# Altium footprint library 智能饮水机.PcbLib: 20 footprints (part 1 of 2)
Each footprint in its own frame and in the unit in brackets; x right, y up, seen from the top. Pads: shape width x height; smd on the part's side, far side on the other; paste and mask are expansions set on the pad; w line width, h text height; cw(c..) or ccw(c..) is an arc to the next point about the centre after c.
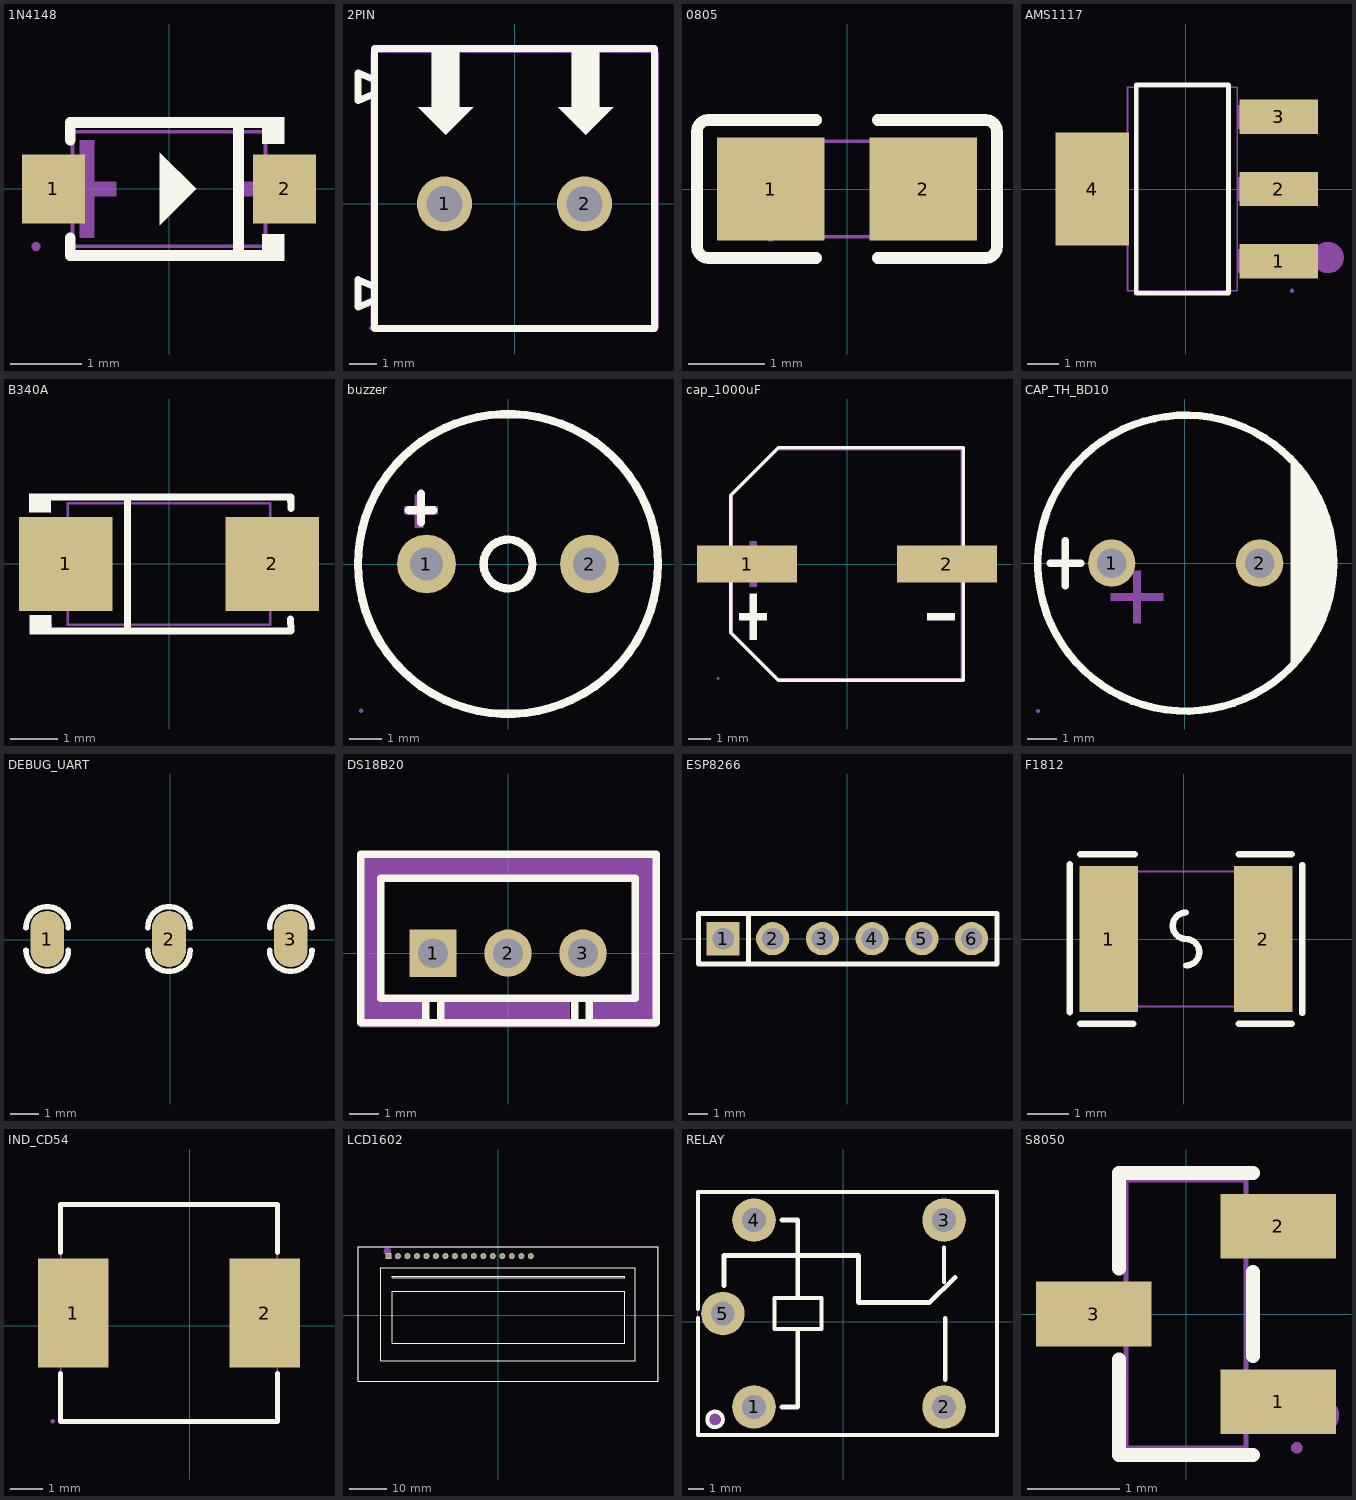
[diagram p0: the footprints below, top view; thin cyan lines are the x and y axes]

## 1N4148 [mm]
pads (2):
  rect 0.88x0.96 smd: 1(-1.61,0) 2(1.61,0)
Top Overlay:
  region: 1.3,-1.003 1.3,-0.632 1.605,-0.633 1.605,-1.003
  region: 1.3,1.002 1.3,0.632 1.605,0.632 1.605,1.002
  region: 0.381,0 -0.127,0.508 -0.127,-0.508
  lines w0.152: -1.376,-0.683 -1.376,-0.926 1.376,-0.926 ; -1.376,0.683 -1.376,0.926 1.376,0.926 ; 0.967,-0.926 0.967,0.926
Mechanical 6:
  region: 1.805,-0.102 1.805,0.102 0.989,0.102 0.989,-0.102
  region: -1.551,-0.102 -1.551,0.102 -0.735,0.102 -0.735,-0.102
  region: -1.245,-0.68 -1.245,0.68 -1.041,0.68 -1.041,-0.68
Mechanical 15:
  region: -1.791,-0.8 -1.791,-0.775 -1.826,-0.74 -1.876,-0.74 -1.911,-0.775 -1.911,-0.8 -1.911,-0.825 -1.876,-0.86 -1.826,-0.86 -1.791,-0.825
  region: 1.511,-0.3 1.511,0.3 1.34,0.3 1.34,-0.3
  region: 1.851,-0.3 1.501,-0.3 1.501,0.3 1.851,0.3
  region: -1.511,0.3 -1.511,-0.3 -1.34,-0.3 -1.34,0.3
  region: -1.851,0.3 -1.501,0.3 -1.501,-0.3 -1.851,-0.3
  lines w0.051: -1.345,-0.8 1.345,-0.8 1.345,0.8 -1.345,0.8 -1.345,-0.8

## 2PIN [mm]
pads (2):
  round 2 hole 1.3: 1(-2.54,0) 2(2.54,0)
Top Overlay:
  region: -3,5.5 -2,5.5 -2,3.5 -1.5,3.5 -2.5,2.5 -3.5,3.5 -3,3.5
  region: 2.08,5.5 3.08,5.5 3.08,3.5 3.58,3.5 2.58,2.5 1.58,3.5 2.08,3.5
  lines w0.254: -5.08,-4.52 -5.08,5.64 ; -5.08,-3.5 -5.68,-3.75 -5.68,-2.75 -5.08,-3 ; -5.08,4 -5.68,3.75 -5.68,4.75 -5.08,4.5 ; -5.054,-4.522 5.08,-4.522 5.08,5.638 -5.054,5.638
Mechanical 6:
  region: 2.08,5.5 3.08,5.5 3.08,3.5 3.58,3.5 2.58,2.5 1.58,3.5 2.08,3.5
  region: -3,5.5 -2,5.5 -2,3.5 -1.5,3.5 -2.5,2.5 -3.5,3.5 -3,3.5
Mechanical 15:
  region: -5.147,-4.5 -5.147,-4.475 -5.182,-4.44 -5.232,-4.44 -5.267,-4.475 -5.267,-4.5 -5.267,-4.525 -5.232,-4.56 -5.182,-4.56 -5.147,-4.525
  region: 3.09,0 3.088,0.108 3.003,0.308 2.849,0.46 2.648,0.542 2.432,0.542 2.231,0.46 2.077,0.308 1.992,0.108 1.99,0 1.992,-0.108 2.077,-0.307 2.231,-0.46 2.432,-0.542 2.648,-0.542 2.849,-0.46 3.003,-0.308 3.088,-0.108
  region: -1.99,0 -1.992,0.108 -2.077,0.308 -2.231,0.46 -2.432,0.542 -2.648,0.542 -2.849,0.46 -3.003,0.308 -3.088,0.108 -3.09,0 -3.088,-0.108 -3.003,-0.307 -2.849,-0.46 -2.648,-0.542 -2.432,-0.542 -2.231,-0.46 -2.077,-0.308 -1.992,-0.108
  lines w0.051: -5.207,-4.5 5.207,-4.5 5.207,5.5 -5.207,5.5 -5.207,-4.5

## 0805 [mm]
pads (2):
  rect 1.41x1.35 smd paste-100 mask+0.051: 1(-1,0) 2(1,0)
Top Overlay:
  lines w0.152: -0.401,-0.904 -1.811,-0.904 cw(c-1.811,-0.751) -1.964,-0.751 -1.964,0.751 cw(c-1.811,0.751) -1.811,0.904 -0.401,0.904 ; 0.401,-0.904 1.811,-0.904 ccw(c1.811,-0.751) 1.964,-0.751 1.964,0.751 ccw(c1.811,0.751) 1.811,0.904 0.401,0.904
Top Paste:
  region: 1.705,0.64 1.705,-0.64 1.655,-0.69 0.505,-0.69 0.455,-0.64 0.45,-0.23 0.9,-0.23 0.9,0.22 0.46,0.22 0.455,0.64 0.505,0.69 1.655,0.69
  region: -1.705,-0.64 -1.705,0.64 -1.655,0.69 -0.505,0.69 -0.455,0.64 -0.45,0.23 -0.9,0.23 -0.9,-0.22 -0.46,-0.22 -0.455,-0.64 -0.505,-0.69 -1.655,-0.69
Mechanical 15:
  region: 1,0.625 1,-0.625 0.5,-0.625 0.5,0.625
  region: -1,-0.625 -1,0.625 -0.5,0.625 -0.5,-0.625
  region: -0.94,-0.625 -0.941,-0.601 -0.976,-0.568 -1.024,-0.568 -1.059,-0.601 -1.06,-0.625 -1.059,-0.649 -1.024,-0.683 -0.976,-0.683 -0.941,-0.649
  lines w0.051: -1,-0.625 1,-0.625 1,0.625 -1,0.625 -1,-0.625

## AMS1117 [mm]
pads (4):
  rect 2.5x1.1 smd: 1(2.97,-2.3) 2(2.97,0) 3(2.97,2.3)
  rect 2.34x3.6 smd: 4(-2.97,0)
Top Overlay:
  lines w0.152: -1.571,-3.326 -1.571,3.326 1.371,3.326 1.371,-3.326 -1.571,-3.326
Mechanical 6:
  circle w0.5: c4.552,-2.188 r0.25
Mechanical 15:
  region: 3.46,-3.25 3.46,-3.225 3.425,-3.19 3.375,-3.19 3.34,-3.225 3.34,-3.25 3.34,-3.275 3.375,-3.31 3.425,-3.31 3.46,-3.275
  region: 1.64,1.925 1.64,2.675 2.66,2.675 2.66,1.925
  region: 2.65,1.925 2.65,2.675 3.4,2.675 3.4,1.925
  region: 1.64,-0.375 1.64,0.375 2.66,0.375 2.66,-0.375
  region: 2.65,-0.375 2.65,0.375 3.4,0.375 3.4,-0.375
  region: 1.64,-2.675 1.64,-1.925 2.66,-1.925 2.66,-2.675
  region: 2.65,-2.675 2.65,-1.925 3.4,-1.925 3.4,-2.675
  region: -2.86,-1.5 -2.86,1.5 -1.84,1.5 -1.84,-1.5
  region: -3.6,-1.5 -3.6,1.5 -2.85,1.5 -2.85,-1.5
  lines w0.051: -1.85,-3.25 -1.85,3.25 1.65,3.25 1.65,-3.25 -1.85,-3.25

## B340A [mm]
pads (2):
  rect 2x2 smd: 1(-2.2,0) 2(2.2,0)
Top Overlay:
  region: -2.52,1.502 -2.521,1.096 -2.981,1.1 -2.977,1.502
  region: -2.512,-1.096 -2.513,-1.503 -2.973,-1.498 -2.969,-1.096
  lines w0.152: -2.596,-1.426 2.596,-1.426 ; -2.596,1.426 2.596,1.426 2.603,1.187 ; -0.884,-1.426 -0.884,1.426 ; 2.593,-1.176 2.6,-1.415
Mechanical 6:
  region: -2.317,-0.101 -2.317,0.101 -1.507,0.101 -1.507,-0.101
  region: 2.317,-0.101 2.317,0.101 1.507,0.101 1.507,-0.101
  region: 2.014,-0.675 2.014,0.675 1.811,0.675 1.811,-0.675
Mechanical 15:
  region: 2.56,0.725 2.56,-0.725 1.435,-0.725 1.435,0.725
  region: -1.435,0.725 -1.435,-0.725 -2.56,-0.725 -2.56,0.725
  region: -2.5,-1.3 -2.5,-1.275 -2.535,-1.241 -2.584,-1.241 -2.619,-1.275 -2.62,-1.3 -2.619,-1.324 -2.584,-1.359 -2.536,-1.359 -2.501,-1.324
  lines w0.051: -2.16,-1.3 2.16,-1.3 2.16,1.3 -2.16,1.3 -2.16,-1.3

## buzzer [mm]
pads (2):
  round 1.8 hole 1 copper offset 0,0: 1(-2.5,0)
  round 1.8 hole 1: 2(2.5,0)
Top Overlay:
  circle w0.254: c0,0 r4.6
  circle w0.254: c0,0 r0.75
  lines w0.254: -3.048,1.651 -2.286,1.651 ; -2.667,1.27 -2.667,2.159
Mechanical 6:
  region: -3.048,1.524 -2.159,1.524 -2.159,1.778 -3.175,1.778 -3.175,1.524
  region: -2.599,1.235 -2.599,2.124 -2.853,2.124 -2.853,1.108 -2.599,1.108
Mechanical 15:
  region: -4.445,-4.505 -4.445,-4.48 -4.48,-4.445 -4.53,-4.445 -4.565,-4.48 -4.565,-4.505 -4.565,-4.53 -4.53,-4.565 -4.48,-4.565 -4.445,-4.53
  region: 2.8,0 2.799,0.059 2.753,0.168 2.669,0.252 2.559,0.297 2.441,0.297 2.331,0.252 2.247,0.168 2.201,0.059 2.2,0 2.201,-0.059 2.247,-0.168 2.331,-0.252 2.441,-0.297 2.559,-0.297 2.669,-0.252 2.753,-0.168 2.799,-0.059
  region: -2.2,0 -2.201,0.059 -2.247,0.168 -2.331,0.252 -2.441,0.297 -2.559,0.297 -2.669,0.252 -2.753,0.168 -2.799,0.059 -2.8,0 -2.799,-0.059 -2.753,-0.168 -2.669,-0.252 -2.559,-0.297 -2.441,-0.297 -2.331,-0.252 -2.247,-0.168 -2.201,-0.059
  lines w0.051: -4.505,0 cw(c0,0) 4.505,0 cw(c0,0) -4.505,0

## cap_1000uF [mm]
pads (2):
  rect 4.5x1.65 smd: 1(-4.5,0) 2(4.5,0)
Top Overlay:
  region: -4.378,-1.339 -4.378,-3.399 -4.068,-3.399 -4.068,-1.339
  region: -4.841,-2.214 -4.841,-2.523 -3.605,-2.523 -3.605,-2.214
  region: 4.841,-2.214 4.841,-2.523 3.605,-2.523 3.605,-2.214
  lines w0.152: -5.226,-0.852 -5.226,-3.09 -3.09,-5.226 5.226,-5.226 5.226,-0.852 ; -5.226,0.852 -5.226,3.09 -3.09,5.226 5.226,5.226 5.226,0.852
Mechanical 6:
  region: -4.378,1.03 -4.378,-1.03 -4.068,-1.03 -4.068,1.03
  region: -4.841,0.155 -4.841,-0.155 -3.605,-0.155 -3.605,0.155
  region: 4.841,0.155 4.841,-0.155 3.605,-0.155 3.605,0.155
Mechanical 15:
  region: 2.3,0.45 5.8,0.45 5.8,-0.45 2.3,-0.45
  region: -5.8,0.45 -2.3,0.45 -2.3,-0.45 -5.8,-0.45
  region: -5.74,-5.15 -5.74,-5.125 -5.775,-5.09 -5.825,-5.09 -5.86,-5.125 -5.86,-5.15 -5.86,-5.175 -5.825,-5.21 -5.775,-5.21 -5.74,-5.175
  lines w0.051: -5.15,-3.09 -5.15,3.09 -3.09,5.15 5.15,5.15 5.15,-5.15 -3.09,-5.15 -5.15,-3.09

## CAP_TH_BD10 [mm]
pads (2):
  round 1.6 hole 1: 1(-2.46,0) 2(2.54,0)
Top Overlay:
  circle w0.254: c0.04,0 r5
  region: 3.596,3.556 3.596,-3.556 4.358,-2.54 4.866,-1.016 5.12,0.508 4.866,1.524
  lines w0.254: -4.532,0 -3.516,0 ; -4.024,-0.762 -4.024,0.762
Mechanical 6:
  region: -1.738,-0.762 -1.738,-2.032 -1.484,-2.032 -1.484,-0.254 -1.738,-0.254
  region: -2.5,-1.016 -0.722,-1.016 -0.722,-1.27 -2.5,-1.27
Mechanical 15:
  region: 2.84,0 2.839,0.059 2.792,0.167 2.708,0.25 2.599,0.294 2.481,0.294 2.372,0.25 2.288,0.167 2.241,0.059 2.24,0 2.241,-0.059 2.288,-0.167 2.372,-0.25 2.481,-0.294 2.599,-0.294 2.708,-0.25 2.792,-0.167 2.839,-0.059
  region: -2.16,0 -2.161,0.059 -2.208,0.167 -2.292,0.25 -2.401,0.294 -2.519,0.294 -2.628,0.25 -2.712,0.167 -2.759,0.059 -2.76,0 -2.759,-0.059 -2.712,-0.167 -2.628,-0.25 -2.519,-0.294 -2.401,-0.294 -2.292,-0.25 -2.208,-0.167 -2.161,-0.059
  region: -4.9,-5 -4.9,-4.975 -4.935,-4.94 -4.985,-4.94 -5.02,-4.975 -5.02,-5 -5.02,-5.025 -4.985,-5.06 -4.935,-5.06 -4.9,-5.025
  lines w0.051: -4.96,0 ccw(c0.04,0) 5.04,0 ccw(c0.04,0) -4.96,0

## DEBUG_UART [mm]
pads (3):
  oval 1.2x2 smd: 1(-4.364,0.035) 2(-0.046,0.035) 3(4.272,0.035)
Top Overlay:
  lines w0.2: -5.114,-0.365 ccw(c-4.364,-0.365) -3.614,-0.365 ; -5.114,0.435 cw(c-4.364,0.435) -3.614,0.435 ; -0.796,-0.365 ccw(c-0.046,-0.365) 0.704,-0.365 ; -0.796,0.435 cw(c-0.046,0.435) 0.704,0.435 ; 3.522,-0.365 ccw(c4.272,-0.365) 5.022,-0.365 ; 3.522,0.435 cw(c4.272,0.435) 5.022,0.435

## DS18B20 [mm]
pads (3):
  rect 1.6x1.6 hole 1: 1(-2.54,0)
  round 1.6 hole 1: 2(0,0) 3(2.54,0)
Top Overlay:
  lines w0.254: -2.794,-2.35 -2.794,-1.524 ; -2.279,-2.35 -2.279,-1.524 ; 2.268,-2.35 2.268,-1.524 ; 2.751,-2.35 2.751,-1.524 ; -4.98,-2.35 -4.98,3.35 5.02,3.35 5.02,-2.35 -4.98,-2.35 ; -4.318,-1.524 4.318,-1.524 4.318,2.54 -4.318,2.54 -4.318,-1.524
Mechanical 6:
  region: -2.22,-2.3 2.098,-2.3 2.098,-1.538 -2.22,-1.538
  region: 2.794,-2.286 2.794,-1.524 4.318,-1.524 4.318,2.54 -4.318,2.54 -4.318,-1.524 -2.794,-1.524 -2.794,-2.286 -5.08,-2.286 -5.08,3.302 5.08,3.302 5.08,-2.286
Mechanical 15:
  region: 2.215,0.325 2.865,0.325 2.865,-0.325 2.215,-0.325
  region: -0.325,0.325 0.325,0.325 0.325,-0.325 -0.325,-0.325
  region: -2.865,0.325 -2.215,0.325 -2.215,-0.325 -2.865,-0.325
  region: -4.94,3.4 -4.941,3.424 -4.975,3.459 -5.024,3.459 -5.059,3.424 -5.06,3.4 -5.059,3.375 -5.024,3.341 -4.975,3.341 -4.941,3.375
  lines w0.051: -5,-2.5 -5,3.4 5,3.4 5,-2.5 -5,-2.5

## ESP8266 [mm]
pads (6):
  rect 1.7x1.7 hole 1.1: 1(-6.35,0)
  round 1.7 hole 1.1: 2(-3.81,0) 3(-1.27,0) 4(1.27,0) 5(3.81,0) 6(6.35,0)
Top Overlay:
  lines w0.254: -5.056,-1.27 -5.056,1.27 ; -7.6,-1.3 7.65,-1.3 7.65,1.3 -7.6,1.3 -7.6,-1.3
Mechanical 15:
  region: -7.56,-1.27 -7.56,-1.245 -7.595,-1.21 -7.645,-1.21 -7.68,-1.245 -7.68,-1.27 -7.68,-1.295 -7.645,-1.33 -7.595,-1.33 -7.56,-1.295
  region: 6.03,0.32 6.67,0.32 6.67,-0.32 6.03,-0.32
  region: 3.49,0.32 4.13,0.32 4.13,-0.32 3.49,-0.32
  region: 0.95,0.32 1.59,0.32 1.59,-0.32 0.95,-0.32
  region: -1.59,0.32 -0.95,0.32 -0.95,-0.32 -1.59,-0.32
  region: -4.13,0.32 -3.49,0.32 -3.49,-0.32 -4.13,-0.32
  region: -6.67,0.32 -6.03,0.32 -6.03,-0.32 -6.67,-0.32
  lines w0.051: -7.62,-1.27 -7.62,1.27 7.62,1.27 7.62,-1.27 -7.62,-1.27

## F1812 [mm]
pads (2):
  rect 1.407x3.499 smd paste-100 mask+0.051: 1(-1.802,0) 2(1.905,0)
Top Overlay:
  lines w0.152: -2.742,-1.758 -2.742,1.798 ; -2.488,-2.032 -1.218,-2.032 ; -2.488,2.032 -1.183,2.032 ; 0.052,-0.635 ccw(c0.052,-0.318) 0.052,0 cw(c0.052,0.318) 0.052,0.635 ; 1.322,-2.032 2.592,-2.032 ; 1.322,2.032 2.592,2.032 ; 2.846,-1.778 2.846,1.778
Top Paste:
  region: 1.202,-1.65 1.202,-0.695 1.302,-0.595 1.58,-0.595 1.68,-0.495 1.68,0.495 1.58,0.595 1.302,0.595 1.202,0.695 1.202,1.65 1.302,1.75 2.508,1.75 2.608,1.65 2.608,-1.65 2.508,-1.75 1.302,-1.75
  region: -1.098,-1.65 -1.098,-0.695 -1.198,-0.595 -1.477,-0.595 -1.577,-0.495 -1.577,0.495 -1.477,0.595 -1.198,0.595 -1.098,0.695 -1.098,1.65 -1.198,1.75 -2.405,1.75 -2.505,1.65 -2.505,-1.65 -2.405,-1.75 -1.198,-1.75
Mechanical 15:
  region: -2.164,-1.62 -2.164,-1.596 -2.199,-1.561 -2.248,-1.561 -2.283,-1.596 -2.283,-1.62 -2.283,-1.644 -2.248,-1.679 -2.199,-1.679 -2.164,-1.644
  region: -2.223,-1.62 -2.223,1.62 -1.473,1.62 -1.473,-1.62
  region: 2.327,-1.62 2.327,1.62 1.577,1.62 1.577,-1.62
  lines w0.051: -2.223,-1.62 -2.223,1.62 2.327,1.62 2.327,-1.62 -2.223,-1.62

## IND_CD54 [mm]
pads (2):
  rect 2.15x3.32 smd: 1(-3.548,0.381) 2(2.278,0.381)
Top Overlay:
  lines w0.152: -3.937,-1.459 -3.937,-2.921 2.667,-2.921 2.667,-1.459 ; -3.937,2.221 -3.937,3.683 2.667,3.683 2.667,2.221
Mechanical 15:
  region: 1.315,1.881 2.915,1.881 2.915,-1.119 1.315,-1.119
  region: -4.185,1.881 -2.585,1.881 -2.585,-1.119 -4.185,-1.119
  region: -4.125,-2.919 -4.125,-2.894 -4.16,-2.859 -4.21,-2.859 -4.245,-2.894 -4.245,-2.919 -4.245,-2.944 -4.21,-2.979 -4.16,-2.979 -4.125,-2.944 -4.125,-2.919
  lines w0.051: -3.935,-2.919 -3.935,3.681 2.665,3.681 2.665,-2.919 -3.935,-2.919

## LCD1602 [mm]
pads (16):
  rect 1.6x1.6 hole 1: 1(-29.368,15.887)
  round 1.6 hole 1: 2(-26.828,15.887) 3(-24.288,15.887) 4(-21.748,15.887) 5(-19.208,15.887) 6(-16.668,15.887) 7(-14.128,15.887) 8(-11.588,15.887) 9(-9.048,15.887) 10(-6.508,15.887) 11(-3.968,15.887) 12(-1.428,15.887) 13(1.112,15.887) 14(3.652,15.887) 15(6.192,15.887) 16(8.732,15.887)
Top Overlay:
  lines w0.2: -37.5,-17.647 42.764,-17.647 42.764,18.421 -37.5,18.421 -37.5,-17.647 ; -31.404,-12.059 36.668,-12.059 36.668,12.833 -31.404,12.833 -31.404,-12.059 ; -28.356,-7.487 33.874,-7.487 33.874,6.483 -28.356,6.483 -28.356,-7.487 ; -28.356,10.039 33.874,10.039 33.874,10.547 -28.356,10.547 -28.356,10.039
Mechanical 6:
  circle w1: c-29.626,17.151 r0.5
Mechanical 15:
  region: -37.308,18.387 -37.309,18.411 -37.344,18.444 -37.392,18.444 -37.427,18.411 -37.428,18.387 -37.427,18.363 -37.392,18.33 -37.344,18.33 -37.309,18.363
  region: -29.688,16.207 -29.048,16.207 -29.048,15.567 -29.688,15.567
  region: -27.148,16.207 -26.508,16.207 -26.508,15.567 -27.148,15.567
  region: -24.608,16.207 -23.968,16.207 -23.968,15.567 -24.608,15.567
  region: -22.068,16.207 -21.428,16.207 -21.428,15.567 -22.068,15.567
  region: -19.528,16.207 -18.888,16.207 -18.888,15.567 -19.528,15.567
  region: -16.988,16.207 -16.348,16.207 -16.348,15.567 -16.988,15.567
  region: -14.448,16.207 -13.808,16.207 -13.808,15.567 -14.448,15.567
  region: -11.908,16.207 -11.268,16.207 -11.268,15.567 -11.908,15.567
  region: -9.368,16.207 -8.728,16.207 -8.728,15.567 -9.368,15.567
  region: -6.828,16.207 -6.188,16.207 -6.188,15.567 -6.828,15.567
  region: -4.288,16.207 -3.648,16.207 -3.648,15.567 -4.288,15.567
  region: -1.748,16.207 -1.108,16.207 -1.108,15.567 -1.748,15.567
  region: 0.792,16.207 1.432,16.207 1.432,15.567 0.792,15.567
  region: 3.332,16.207 3.972,16.207 3.972,15.567 3.332,15.567
  region: 5.872,16.207 6.512,16.207 6.512,15.567 5.872,15.567
  region: 8.412,16.207 9.052,16.207 9.052,15.567 8.412,15.567
  lines w0.051: -37.368,-17.613 42.632,-17.613 42.632,18.387 -37.368,18.387 -37.368,-17.613

## RELAY [mil]
pads (5):
  round 110 hole 60: 1(-225.33,-215.02) 2(255,-215) 3(255,257.4) 4(-225.33,257.42) 5(-304.07,21.2)
Top Overlay:
  circle w10: c-323.75,-246.52 r19.69
  lines w10: -367.02,9.6 -367.02,-285.89 388.89,-285.89 388.89,328.29 -367.02,328.29 -367.02,32.8 ; 254.97,100.7 254.97,188.4 ; -173.16,-18.17 -173.16,60.57 -55.05,60.57 -55.05,-18.17 -173.16,-18.17
  lines w11.81: -301.38,92.07 -301.38,167.94 38.62,167.94 38.62,49.83 39.58,48.88 197.69,48.88 217.69,48.88 ; -154.84,-215.02 -114.77,-215.02 -114.77,-20.19 ; -154.84,257.42 -114.77,257.42 -114.77,62.57 ; 217.59,48.8 282.57,112.1 ; 257.69,-146.4 257.69,8.9
Mechanical 6:
  circle w19.68: c-323.75,-246.52 r9.84
Mechanical 15:
  region: 274.68,-224.84 235.31,-224.84 235.31,-205.16 274.68,-205.16
  region: 274.68,247.56 235.31,247.56 235.31,267.24 274.68,267.24
  region: -296.19,42.85 -296.19,-0.45 -311.94,-0.45 -311.94,42.85
  region: -213.51,-215.02 -213.55,-212.7 -215.39,-208.44 -218.71,-205.19 -223,-203.44 -227.64,-203.44 -231.94,-205.19 -235.25,-208.44 -237.09,-212.7 -237.14,-215.02 -237.09,-217.34 -235.25,-221.6 -231.94,-224.85 -227.64,-226.61 -223,-226.61 -218.71,-224.85 -215.39,-221.6 -213.55,-217.34
  region: -213.51,257.42 -213.55,259.74 -215.39,264 -218.71,267.25 -223,269 -227.64,269 -231.94,267.25 -235.25,264 -237.09,259.74 -237.14,257.42 -237.09,255.1 -235.25,250.84 -231.94,247.59 -227.64,245.83 -223,245.83 -218.71,247.59 -215.39,250.84 -213.55,255.1
  region: -364.69,-285.87 -364.69,-284.89 -366.08,-283.51 -368.03,-283.51 -369.42,-284.89 -369.42,-285.87 -369.42,-286.85 -368.03,-288.23 -366.08,-288.23 -364.69,-286.85
  lines w2: -367.05,-285.87 388.85,-285.87 388.85,328.29 -367.05,328.29 -367.05,-285.87

## S8050 [mm]
pads (3):
  rect 1.25x0.7 smd: 1(1,-0.95) 2(1,0.95) 3(-1,0)
Top Overlay:
  lines w0.152: -0.726,-0.495 -0.726,-1.526 0.726,-1.526 ; -0.726,0.495 -0.726,1.526 0.726,1.526 ; 0.726,-0.455 0.726,0.455
Mechanical 6:
  circle w0.2: c1.46,-1.1 r0.1
Mechanical 15:
  region: 1.26,-1.45 1.259,-1.426 1.224,-1.392 1.176,-1.392 1.141,-1.426 1.14,-1.45 1.141,-1.474 1.176,-1.508 1.224,-1.508 1.259,-1.474
  region: 0.64,0.735 0.64,1.165 0.91,1.165 0.91,0.735
  region: 0.9,0.735 0.9,1.165 1.2,1.165 1.2,0.735
  region: 0.64,-1.165 0.64,-0.735 0.91,-0.735 0.91,-1.165
  region: 0.9,-1.165 0.9,-0.735 1.2,-0.735 1.2,-1.165
  region: -0.91,-0.215 -0.91,0.215 -0.64,0.215 -0.64,-0.215
  region: -1.2,-0.215 -1.2,0.215 -0.9,0.215 -0.9,-0.215
  lines w0.051: -0.65,-1.45 -0.65,1.45 0.65,1.45 0.65,-1.45 -0.65,-1.45